# EAGLE library part SF_LOGIC_CONVERTER (library SteelCaveRobotics-Boards)
SparkFun Logic Level Converter Bi-Directional https://www.sparkfun.com/products/12009
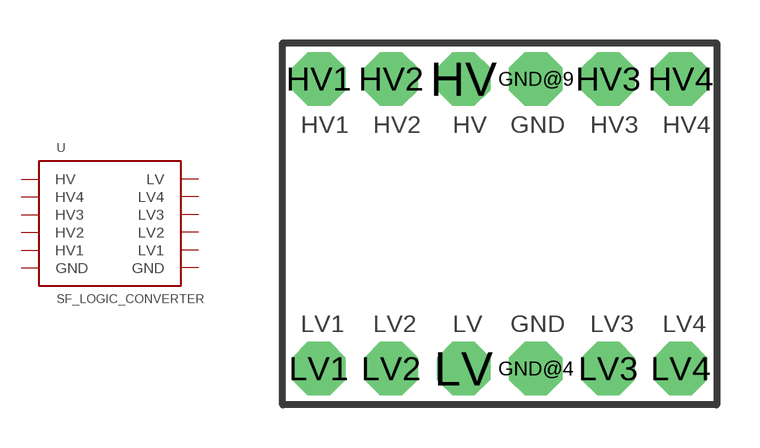
[diagram p4: symbol with the pads of SF_LOGIC_CONVERTER; footprint SF_LOGIC_CONVERTER]

Designator prefix -

## SF_LOGIC_CONVERTER  [SF_LOGIC_CONVERTER]
GND@4  GND  pwr
GND@9  GND  pwr
HV  HV  pwr
HV1  HV1
HV2  HV2
HV3  HV3
HV4  HV4
LV  LV  pwr
LV1  LV1
LV2  LV2
LV3  LV3
LV4  LV4

## Footprint SF_LOGIC_CONVERTER (pad centres in mm)
SparkFun Logic Level Converter Bi-Directional https://www.sparkfun.com/products/12009
drill 1.016 pad 1.88 octagon: GND@4 1.27,-5.08; GND@9 1.27,5.08; HV -1.27,5.08; HV1 -6.35,5.08; HV2 -3.81,5.08; HV3 3.81,5.08; HV4 6.35,5.08; LV -1.27,-5.08; LV1 -6.35,-5.08; LV2 -3.81,-5.08; LV3 3.81,-5.08; LV4 6.35,-5.08